# Altium schematic symbol library LTC7891.Schlib: 1 symbol
Pins are listed as number, name and electrical type; pins without a type are passive.

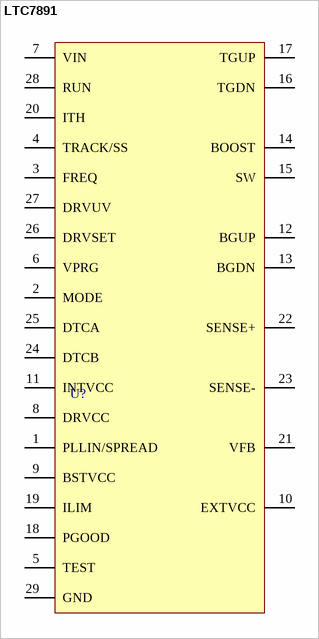
[diagram p0: symbol LTC7891]

## LTC7891
designator U?
100 V, Synchronous Step-Down Controller for GaN FETs
pins: 1 PLLIN/SPREAD, 2 MODE, 3 FREQ, 4 TRACK/SS, 5 TEST, 6 VPRG, 7 VIN, 8 DRVCC, 9 BSTVCC, 10 EXTVCC, 11 INTVCC, 12 BGUP, 13 BGDN, 14 BOOST, 15 SW, 16 TGDN, 17 TGUP, 18 PGOOD, 19 ILIM, 20 ITH, 21 VFB, 22 SENSE+, 23 SENSE-, 24 DTCB, 25 DTCA, 26 DRVSET, 27 DRVUV, 28 RUN, 29 GND